# EAGLE library part TK1-L2-* (library EW_Electro_Mechanical)
ULTRA LOW PROFILE 2 AMP. POLARIZED RELAY NAiS 2 coil latching Source: http://www.mew-europe.com/.. en_ds_61018_0000.pdf
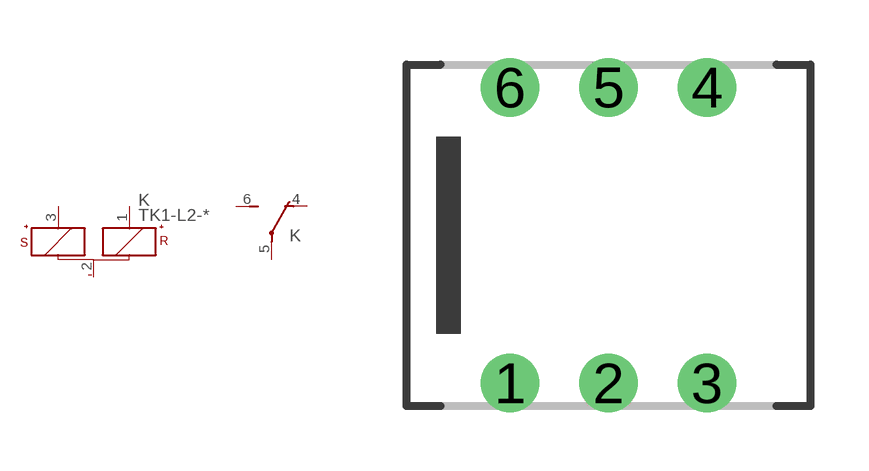
[diagram p113: symbol with the pads of TK; footprint TK]

Designator prefix K; gates -=+KS+KR--5 G$1=U-95

## TK1-L2-1.5V (OC_FARNELL: unknown; OC_NEWARK: unknown), TK1-L2-12V (MPN: TK1-L2-12V; OC_FARNELL: unknown; OC_NEWARK: 15P9751), TK1-L2-24V (MPN: TK1-L2-24V; OC_FARNELL: unknown; OC_NEWARK: 15P9752), TK1-L2-3V (MPN: TK1-L2-3V; OC_FARNELL: unknown; OC_NEWARK: 15P9753), TK1-L2-4.5V (MPN: TK1-L2-4.5V; OC_FARNELL: unknown; OC_NEWARK: 15P9754), TK1-L2-5V (MPN: TK1-L2-5V; OC_FARNELL: unknown; OC_NEWARK: 15P9755), TK1-L2-6V (OC_FARNELL: unknown; OC_NEWARK: unknown), TK1-L2-9V (OC_FARNELL: unknown; OC_NEWARK: unknown), TK1-L2-H-1.5V (OC_FARNELL: unknown; OC_NEWARK: unknown), TK1-L2-H-12V (OC_FARNELL: unknown; OC_NEWARK: unknown), TK1-L2-H-24V (OC_FARNELL: unknown; OC_NEWARK: unknown), TK1-L2-H-3V (OC_FARNELL: unknown; OC_NEWARK: unknown), TK1-L2-H-5V (OC_FARNELL: unknown; OC_NEWARK: unknown), TK1-L2-H-6V (OC_FARNELL: unknown; OC_NEWARK: unknown), TK1-L2-H-9V (OC_FARNELL: unknown; OC_NEWARK: unknown)  [TK]
1  -:R+  pas
2  -:-  pas
3  -:S+  pas
4  G$1:O  pas
5  G$1:P  pas
6  G$1:S  pas

## Footprint TK (pad centres in mm)
ULTRA LOW PROFILE 2 AMP. POLARIZED RELAY NAiS Source: http://www.mew-europe.com/.. en_ds_61018_0000.pdf
drill 1: 1 -2.54,-3.81; 2 0,-3.81; 3 2.54,-3.81; 4 2.54,3.81; 5 0,3.81; 6 -2.54,3.81